# EAGLE library part CH552G (library ch552)
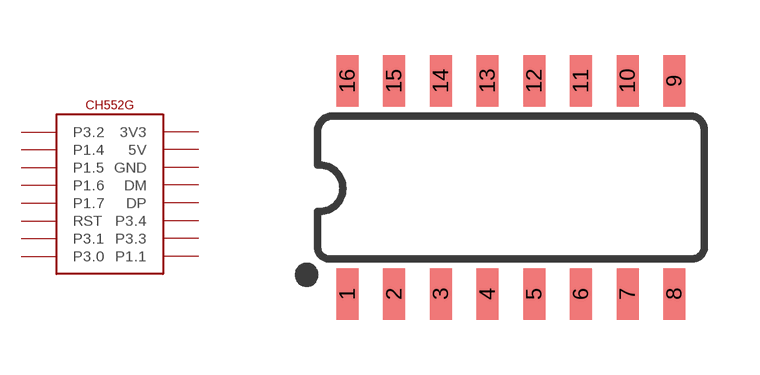
[diagram p0: symbol with the pads of SOIC16; footprint SOIC16]

Designator prefix -

## CH552G  [SOIC16]
1  P3.2
2  P1.4
3  P1.5
4  P1.6
5  P1.7
6  RST
7  P3.1
8  P3.0
9  P1.1
10  P3.3
11  P3.4
12  DP
13  DM
14  GND
15  5V
16  3V3

## Footprint SOIC16 (pad centres in mm)
smd 0.6 x 1.4: 1 -4.445,-2.9; 2 -3.175,-2.9; 3 -1.905,-2.9; 4 -0.635,-2.9; 5 0.635,-2.9; 6 1.905,-2.9; 7 3.175,-2.9; 8 4.445,-2.9; 9 4.445,2.9; 10 3.175,2.9; 11 1.905,2.9; 12 0.635,2.9; 13 -0.635,2.9; 14 -1.905,2.9; 15 -3.175,2.9; 16 -4.445,2.9